# Altium footprint library Switcher.PcbLib: 128 footprints (part 7 of 9)
Each footprint in its own frame and in the unit in brackets; x right, y up, seen from the top. Pads: shape width x height; smd on the part's side, far side on the other; paste and mask are expansions set on the pad; w line width, h text height; cw(c..) or ccw(c..) is an arc to the next point about the centre after c.
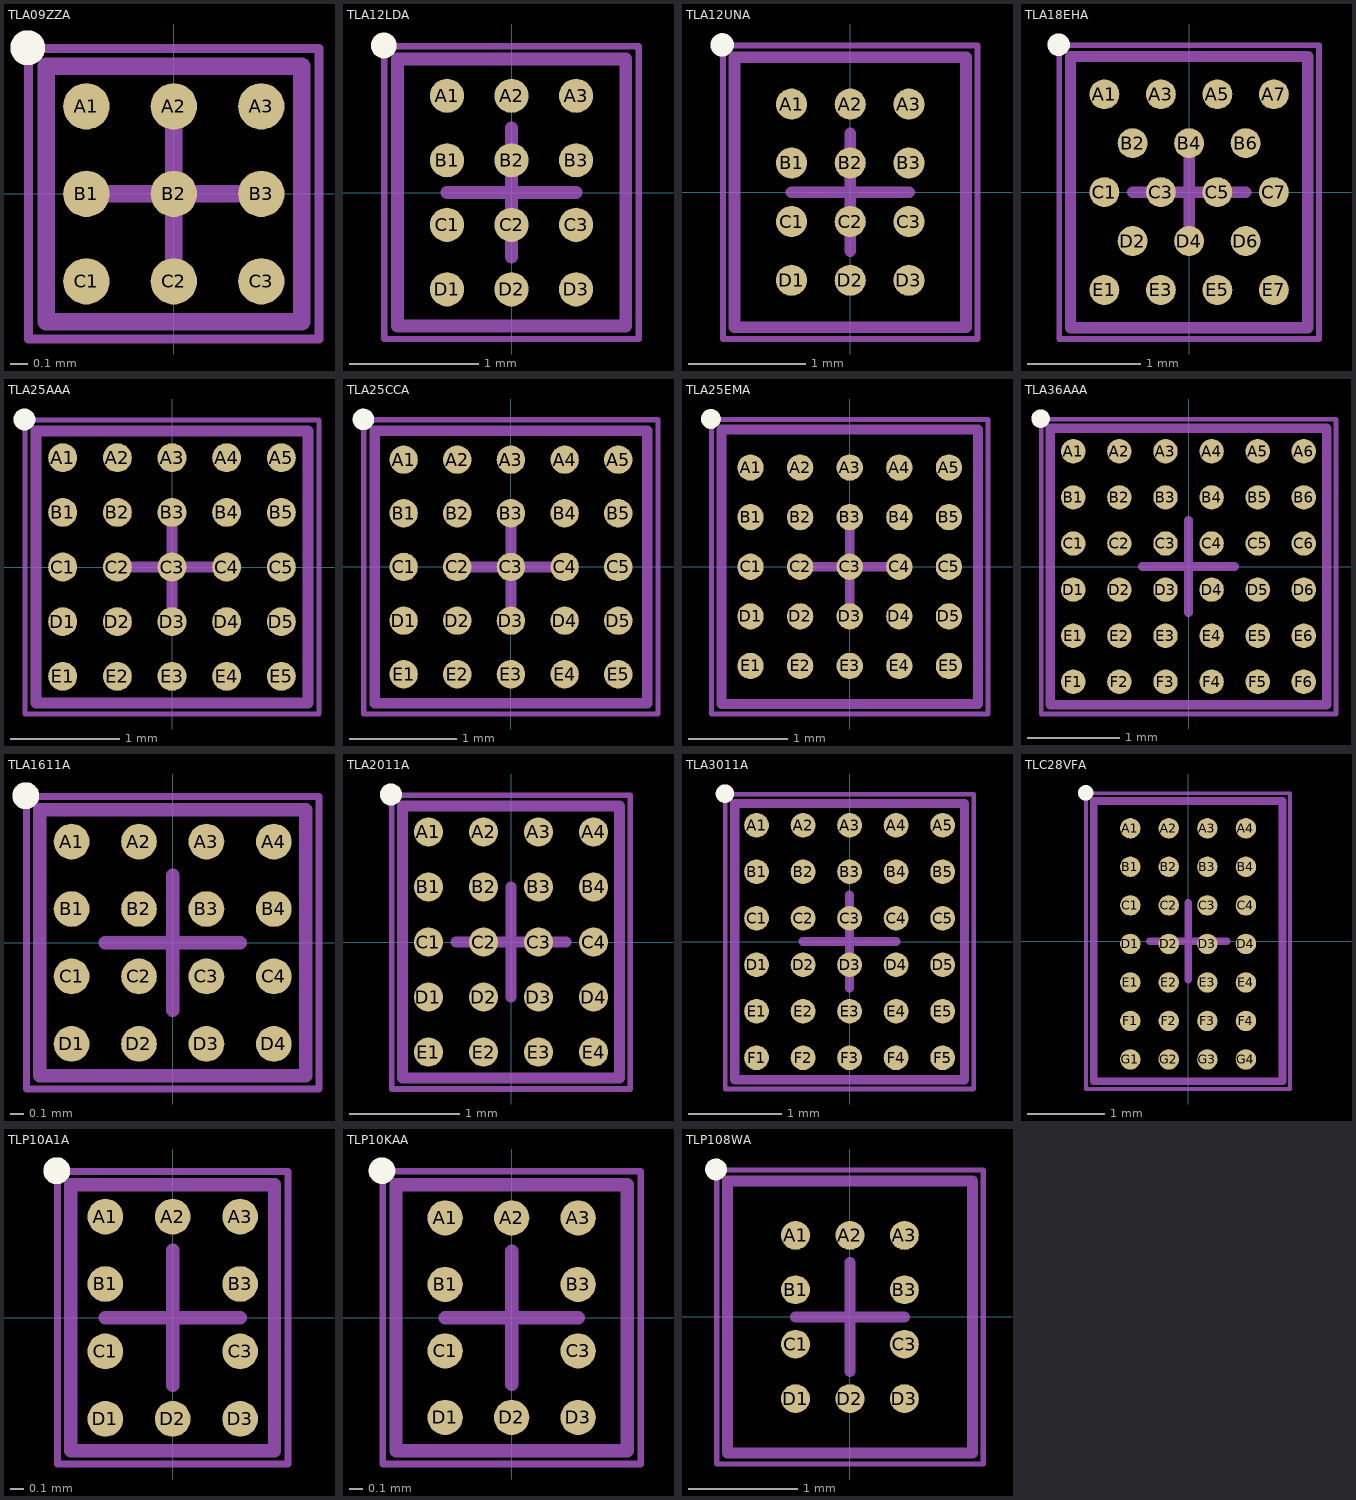
[diagram p6: the footprints below, top view; thin cyan lines are the x and y axes]

## TLA09ZZA [mm] "Micro SMD, 9-Leads, Body 1.47x1.47mm, Pitch 0.5mm, NSC Recommended"
height 0.68
pads (9):
  round 0.265 smd paste-0.132 mask+0.05: A1(-0.5,0.5) A2(0,0.5) A3(0.5,0.5) B1(-0.5,0) B2(0,0) B3(0.5,0) C1(-0.5,-0.5) C2(0,-0.5) C3(0.5,-0.5)
Top Overlay:
  circle w0.1: c-0.835,0.835 r0.05
Top Paste:
  circle w0.05: c-0.575,0.425 r0.025
  circle w0.05: c-0.425,0.575 r0.025
  circle w0.05: c-0.425,0.425 r0.025
  circle w0.05: c-0.575,0.575 r0.025
  circle w0.05: c-0.075,0.425 r0.025
  circle w0.05: c0.075,0.575 r0.025
  circle w0.05: c0.075,0.425 r0.025
  circle w0.05: c-0.075,0.575 r0.025
  circle w0.05: c0.425,0.425 r0.025
  circle w0.05: c0.575,0.575 r0.025
  circle w0.05: c0.575,0.425 r0.025
  circle w0.05: c0.425,0.575 r0.025
  circle w0.05: c-0.575,-0.075 r0.025
  circle w0.05: c-0.425,0.075 r0.025
  circle w0.05: c-0.425,-0.075 r0.025
  circle w0.05: c-0.575,0.075 r0.025
  circle w0.05: c-0.075,-0.075 r0.025
  circle w0.05: c0.075,0.075 r0.025
  circle w0.05: c0.075,-0.075 r0.025
  circle w0.05: c-0.075,0.075 r0.025
  circle w0.05: c0.425,-0.075 r0.025
  circle w0.05: c0.575,0.075 r0.025
  circle w0.05: c0.575,-0.075 r0.025
  circle w0.05: c0.425,0.075 r0.025
  circle w0.05: c-0.575,-0.575 r0.025
  circle w0.05: c-0.425,-0.425 r0.025
  circle w0.05: c-0.425,-0.575 r0.025
  circle w0.05: c-0.575,-0.425 r0.025
  circle w0.05: c-0.075,-0.575 r0.025
  circle w0.05: c0.075,-0.425 r0.025
  circle w0.05: c0.075,-0.575 r0.025
  circle w0.05: c-0.075,-0.425 r0.025
  circle w0.05: c0.425,-0.575 r0.025
  circle w0.05: c0.575,-0.425 r0.025
  circle w0.05: c0.575,-0.575 r0.025
  circle w0.05: c0.425,-0.425 r0.025
  region: -0.575,0.575 -0.575,0.425 -0.425,0.425 -0.425,0.575
  region: -0.575,0.425 -0.575,0.575 -0.625,0.575 -0.625,0.425
  rectangle: -0.575,0.575 -0.425,0.625
  region: -0.425,0.575 -0.425,0.425 -0.375,0.425 -0.375,0.575
  region: -0.425,0.425 -0.575,0.425 -0.575,0.375 -0.425,0.375
  region: -0.075,0.575 -0.075,0.425 0.075,0.425 0.075,0.575
  region: -0.075,0.425 -0.075,0.575 -0.125,0.575 -0.125,0.425
  rectangle: -0.075,0.575 0.075,0.625
  region: 0.075,0.575 0.075,0.425 0.125,0.425 0.125,0.575
  region: 0.075,0.425 -0.075,0.425 -0.075,0.375 0.075,0.375
  region: 0.425,0.575 0.425,0.425 0.575,0.425 0.575,0.575
  region: 0.425,0.425 0.425,0.575 0.375,0.575 0.375,0.425
  rectangle: 0.425,0.575 0.575,0.625
  region: 0.575,0.575 0.575,0.425 0.625,0.425 0.625,0.575
  region: 0.575,0.425 0.425,0.425 0.425,0.375 0.575,0.375
  region: -0.575,0.075 -0.575,-0.075 -0.425,-0.075 -0.425,0.075
  region: -0.575,-0.075 -0.575,0.075 -0.625,0.075 -0.625,-0.075
  rectangle: -0.575,0.075 -0.425,0.125
  region: -0.425,0.075 -0.425,-0.075 -0.375,-0.075 -0.375,0.075
  region: -0.425,-0.075 -0.575,-0.075 -0.575,-0.125 -0.425,-0.125
  region: -0.075,0.075 -0.075,-0.075 0.075,-0.075 0.075,0.075
  region: -0.075,-0.075 -0.075,0.075 -0.125,0.075 -0.125,-0.075
  rectangle: -0.075,0.075 0.075,0.125
  region: 0.075,0.075 0.075,-0.075 0.125,-0.075 0.125,0.075
  region: 0.075,-0.075 -0.075,-0.075 -0.075,-0.125 0.075,-0.125
  region: 0.425,0.075 0.425,-0.075 0.575,-0.075 0.575,0.075
  region: 0.425,-0.075 0.425,0.075 0.375,0.075 0.375,-0.075
  rectangle: 0.425,0.075 0.575,0.125
  region: 0.575,0.075 0.575,-0.075 0.625,-0.075 0.625,0.075
  region: 0.575,-0.075 0.425,-0.075 0.425,-0.125 0.575,-0.125
  region: -0.575,-0.425 -0.575,-0.575 -0.425,-0.575 -0.425,-0.425
  region: -0.575,-0.575 -0.575,-0.425 -0.625,-0.425 -0.625,-0.575
  rectangle: -0.575,-0.425 -0.425,-0.375
  region: -0.425,-0.425 -0.425,-0.575 -0.375,-0.575 -0.375,-0.425
  region: -0.425,-0.575 -0.575,-0.575 -0.575,-0.625 -0.425,-0.625
  region: -0.075,-0.425 -0.075,-0.575 0.075,-0.575 0.075,-0.425
  region: -0.075,-0.575 -0.075,-0.425 -0.125,-0.425 -0.125,-0.575
  rectangle: -0.075,-0.425 0.075,-0.375
  region: 0.075,-0.425 0.075,-0.575 0.125,-0.575 0.125,-0.425
  region: 0.075,-0.575 -0.075,-0.575 -0.075,-0.625 0.075,-0.625
  region: 0.425,-0.425 0.425,-0.575 0.575,-0.575 0.575,-0.425
  region: 0.425,-0.575 0.425,-0.425 0.375,-0.425 0.375,-0.575
  rectangle: 0.425,-0.425 0.575,-0.375
  region: 0.575,-0.425 0.575,-0.575 0.625,-0.575 0.625,-0.425
  region: 0.575,-0.575 0.425,-0.575 0.425,-0.625 0.575,-0.625
Mechanical 13:
  lines w0.1: -0.73,-0.73 -0.73,0.73 0.73,0.73 0.73,-0.73 -0.73,-0.73
Mechanical 15:
  lines w0.05: -0.83,-0.83 -0.83,0.83 0.83,0.83 0.83,-0.83 -0.83,-0.83
  lines w0.1: -0.5,0 0.5,0 ; 0,-0.5 0,0.5
3D body: height 0.68, standoff 0, extent -0.73,-0.73 0.73,0.73

## TLA12LDA [mm] "Micro SMD, 12-Leads, Body 2.07x1.77mm, Pitch 0.5mm, NSC Recommended"
height 0.68
pads (12):
  round 0.265 smd paste-0.132 mask+0.05: A1(-0.5,0.75) A2(0,0.75) A3(0.5,0.75) B1(-0.5,0.25) B2(0,0.25) B3(0.5,0.25) C1(-0.5,-0.25) C2(0,-0.25) C3(0.5,-0.25) D1(-0.5,-0.75) D2(0,-0.75) D3(0.5,-0.75)
Top Overlay:
  circle w0.1: c-0.99,1.14 r0.05
Top Paste:
  circle w0.05: c-0.575,0.675 r0.025
  circle w0.05: c-0.425,0.825 r0.025
  circle w0.05: c-0.425,0.675 r0.025
  circle w0.05: c-0.575,0.825 r0.025
  circle w0.05: c-0.075,0.675 r0.025
  circle w0.05: c0.075,0.825 r0.025
  circle w0.05: c0.075,0.675 r0.025
  circle w0.05: c-0.075,0.825 r0.025
  circle w0.05: c0.425,0.675 r0.025
  circle w0.05: c0.575,0.825 r0.025
  circle w0.05: c0.575,0.675 r0.025
  circle w0.05: c0.425,0.825 r0.025
  circle w0.05: c-0.575,0.175 r0.025
  circle w0.05: c-0.425,0.325 r0.025
  circle w0.05: c-0.425,0.175 r0.025
  circle w0.05: c-0.575,0.325 r0.025
  circle w0.05: c-0.075,0.175 r0.025
  circle w0.05: c0.075,0.325 r0.025
  circle w0.05: c0.075,0.175 r0.025
  circle w0.05: c-0.075,0.325 r0.025
  circle w0.05: c0.425,0.175 r0.025
  circle w0.05: c0.575,0.325 r0.025
  circle w0.05: c0.575,0.175 r0.025
  circle w0.05: c0.425,0.325 r0.025
  circle w0.05: c-0.575,-0.325 r0.025
  circle w0.05: c-0.425,-0.175 r0.025
  circle w0.05: c-0.425,-0.325 r0.025
  circle w0.05: c-0.575,-0.175 r0.025
  circle w0.05: c-0.075,-0.325 r0.025
  circle w0.05: c0.075,-0.175 r0.025
  circle w0.05: c0.075,-0.325 r0.025
  circle w0.05: c-0.075,-0.175 r0.025
  circle w0.05: c0.425,-0.325 r0.025
  circle w0.05: c0.575,-0.175 r0.025
  circle w0.05: c0.575,-0.325 r0.025
  circle w0.05: c0.425,-0.175 r0.025
  circle w0.05: c-0.575,-0.825 r0.025
  circle w0.05: c-0.425,-0.675 r0.025
  circle w0.05: c-0.425,-0.825 r0.025
  circle w0.05: c-0.575,-0.675 r0.025
  circle w0.05: c-0.075,-0.825 r0.025
  circle w0.05: c0.075,-0.675 r0.025
  circle w0.05: c0.075,-0.825 r0.025
  circle w0.05: c-0.075,-0.675 r0.025
  circle w0.05: c0.425,-0.825 r0.025
  circle w0.05: c0.575,-0.675 r0.025
  circle w0.05: c0.575,-0.825 r0.025
  circle w0.05: c0.425,-0.675 r0.025
  region: -0.575,0.825 -0.575,0.675 -0.425,0.675 -0.425,0.825
  region: -0.575,0.675 -0.575,0.825 -0.625,0.825 -0.625,0.675
  rectangle: -0.575,0.825 -0.425,0.875
  region: -0.425,0.825 -0.425,0.675 -0.375,0.675 -0.375,0.825
  region: -0.425,0.675 -0.575,0.675 -0.575,0.625 -0.425,0.625
  region: -0.075,0.825 -0.075,0.675 0.075,0.675 0.075,0.825
  region: -0.075,0.675 -0.075,0.825 -0.125,0.825 -0.125,0.675
  rectangle: -0.075,0.825 0.075,0.875
  region: 0.075,0.825 0.075,0.675 0.125,0.675 0.125,0.825
  region: 0.075,0.675 -0.075,0.675 -0.075,0.625 0.075,0.625
  region: 0.425,0.825 0.425,0.675 0.575,0.675 0.575,0.825
  region: 0.425,0.675 0.425,0.825 0.375,0.825 0.375,0.675
  rectangle: 0.425,0.825 0.575,0.875
  region: 0.575,0.825 0.575,0.675 0.625,0.675 0.625,0.825
  region: 0.575,0.675 0.425,0.675 0.425,0.625 0.575,0.625
  region: -0.575,0.325 -0.575,0.175 -0.425,0.175 -0.425,0.325
  region: -0.575,0.175 -0.575,0.325 -0.625,0.325 -0.625,0.175
  rectangle: -0.575,0.325 -0.425,0.375
  region: -0.425,0.325 -0.425,0.175 -0.375,0.175 -0.375,0.325
  region: -0.425,0.175 -0.575,0.175 -0.575,0.125 -0.425,0.125
  region: -0.075,0.325 -0.075,0.175 0.075,0.175 0.075,0.325
  region: -0.075,0.175 -0.075,0.325 -0.125,0.325 -0.125,0.175
  rectangle: -0.075,0.325 0.075,0.375
  region: 0.075,0.325 0.075,0.175 0.125,0.175 0.125,0.325
  region: 0.075,0.175 -0.075,0.175 -0.075,0.125 0.075,0.125
  region: 0.425,0.325 0.425,0.175 0.575,0.175 0.575,0.325
  region: 0.425,0.175 0.425,0.325 0.375,0.325 0.375,0.175
  rectangle: 0.425,0.325 0.575,0.375
  region: 0.575,0.325 0.575,0.175 0.625,0.175 0.625,0.325
  region: 0.575,0.175 0.425,0.175 0.425,0.125 0.575,0.125
  region: -0.575,-0.175 -0.575,-0.325 -0.425,-0.325 -0.425,-0.175
  region: -0.575,-0.325 -0.575,-0.175 -0.625,-0.175 -0.625,-0.325
  rectangle: -0.575,-0.175 -0.425,-0.125
  region: -0.425,-0.175 -0.425,-0.325 -0.375,-0.325 -0.375,-0.175
  region: -0.425,-0.325 -0.575,-0.325 -0.575,-0.375 -0.425,-0.375
  region: -0.075,-0.175 -0.075,-0.325 0.075,-0.325 0.075,-0.175
  region: -0.075,-0.325 -0.075,-0.175 -0.125,-0.175 -0.125,-0.325
  rectangle: -0.075,-0.175 0.075,-0.125
  region: 0.075,-0.175 0.075,-0.325 0.125,-0.325 0.125,-0.175
  region: 0.075,-0.325 -0.075,-0.325 -0.075,-0.375 0.075,-0.375
  region: 0.425,-0.175 0.425,-0.325 0.575,-0.325 0.575,-0.175
  region: 0.425,-0.325 0.425,-0.175 0.375,-0.175 0.375,-0.325
  rectangle: 0.425,-0.175 0.575,-0.125
  region: 0.575,-0.175 0.575,-0.325 0.625,-0.325 0.625,-0.175
  region: 0.575,-0.325 0.425,-0.325 0.425,-0.375 0.575,-0.375
  region: -0.575,-0.675 -0.575,-0.825 -0.425,-0.825 -0.425,-0.675
  region: -0.575,-0.825 -0.575,-0.675 -0.625,-0.675 -0.625,-0.825
  rectangle: -0.575,-0.675 -0.425,-0.625
  region: -0.425,-0.675 -0.425,-0.825 -0.375,-0.825 -0.375,-0.675
  region: -0.425,-0.825 -0.575,-0.825 -0.575,-0.875 -0.425,-0.875
  region: -0.075,-0.675 -0.075,-0.825 0.075,-0.825 0.075,-0.675
  region: -0.075,-0.825 -0.075,-0.675 -0.125,-0.675 -0.125,-0.825
  rectangle: -0.075,-0.675 0.075,-0.625
  region: 0.075,-0.675 0.075,-0.825 0.125,-0.825 0.125,-0.675
  region: 0.075,-0.825 -0.075,-0.825 -0.075,-0.875 0.075,-0.875
  region: 0.425,-0.675 0.425,-0.825 0.575,-0.825 0.575,-0.675
  region: 0.425,-0.825 0.425,-0.675 0.375,-0.675 0.375,-0.825
  rectangle: 0.425,-0.675 0.575,-0.625
  region: 0.575,-0.675 0.575,-0.825 0.625,-0.825 0.625,-0.675
  region: 0.575,-0.825 0.425,-0.825 0.425,-0.875 0.575,-0.875
Mechanical 13:
  lines w0.1: -0.885,-1.035 -0.885,1.035 0.885,1.035 0.885,-1.035 -0.885,-1.035
Mechanical 15:
  lines w0.05: -0.985,-1.135 -0.985,1.135 0.985,1.135 0.985,-1.135 -0.985,-1.135
  lines w0.1: -0.5,0 0.5,0 ; 0,-0.5 0,0.5
3D body: height 0.68, standoff 0, extent -0.885,-1.035 0.885,1.035

## TLA12UNA [mm] "Micro SMD, 12-Leads, Body 2.3x1.97mm, Pitch 0.5mm, NSC Recommended"
height 0.68
pads (12):
  round 0.265 smd paste-0.132 mask+0.05: A1(-0.5,0.75) A2(0,0.75) A3(0.5,0.75) B1(-0.5,0.25) B2(0,0.25) B3(0.5,0.25) C1(-0.5,-0.25) C2(0,-0.25) C3(0.5,-0.25) D1(-0.5,-0.75) D2(0,-0.75) D3(0.5,-0.75)
Top Overlay:
  circle w0.1: c-1.09,1.255 r0.05
Top Paste:
  circle w0.05: c-0.575,0.675 r0.025
  circle w0.05: c-0.425,0.825 r0.025
  circle w0.05: c-0.425,0.675 r0.025
  circle w0.05: c-0.575,0.825 r0.025
  circle w0.05: c-0.075,0.675 r0.025
  circle w0.05: c0.075,0.825 r0.025
  circle w0.05: c0.075,0.675 r0.025
  circle w0.05: c-0.075,0.825 r0.025
  circle w0.05: c0.425,0.675 r0.025
  circle w0.05: c0.575,0.825 r0.025
  circle w0.05: c0.575,0.675 r0.025
  circle w0.05: c0.425,0.825 r0.025
  circle w0.05: c-0.575,0.175 r0.025
  circle w0.05: c-0.425,0.325 r0.025
  circle w0.05: c-0.425,0.175 r0.025
  circle w0.05: c-0.575,0.325 r0.025
  circle w0.05: c-0.075,0.175 r0.025
  circle w0.05: c0.075,0.325 r0.025
  circle w0.05: c0.075,0.175 r0.025
  circle w0.05: c-0.075,0.325 r0.025
  circle w0.05: c0.425,0.175 r0.025
  circle w0.05: c0.575,0.325 r0.025
  circle w0.05: c0.575,0.175 r0.025
  circle w0.05: c0.425,0.325 r0.025
  circle w0.05: c-0.575,-0.325 r0.025
  circle w0.05: c-0.425,-0.175 r0.025
  circle w0.05: c-0.425,-0.325 r0.025
  circle w0.05: c-0.575,-0.175 r0.025
  circle w0.05: c-0.075,-0.325 r0.025
  circle w0.05: c0.075,-0.175 r0.025
  circle w0.05: c0.075,-0.325 r0.025
  circle w0.05: c-0.075,-0.175 r0.025
  circle w0.05: c0.425,-0.325 r0.025
  circle w0.05: c0.575,-0.175 r0.025
  circle w0.05: c0.575,-0.325 r0.025
  circle w0.05: c0.425,-0.175 r0.025
  circle w0.05: c-0.575,-0.825 r0.025
  circle w0.05: c-0.425,-0.675 r0.025
  circle w0.05: c-0.425,-0.825 r0.025
  circle w0.05: c-0.575,-0.675 r0.025
  circle w0.05: c-0.075,-0.825 r0.025
  circle w0.05: c0.075,-0.675 r0.025
  circle w0.05: c0.075,-0.825 r0.025
  circle w0.05: c-0.075,-0.675 r0.025
  circle w0.05: c0.425,-0.825 r0.025
  circle w0.05: c0.575,-0.675 r0.025
  circle w0.05: c0.575,-0.825 r0.025
  circle w0.05: c0.425,-0.675 r0.025
  region: -0.575,0.825 -0.575,0.675 -0.425,0.675 -0.425,0.825
  region: -0.575,0.675 -0.575,0.825 -0.625,0.825 -0.625,0.675
  rectangle: -0.575,0.825 -0.425,0.875
  region: -0.425,0.825 -0.425,0.675 -0.375,0.675 -0.375,0.825
  region: -0.425,0.675 -0.575,0.675 -0.575,0.625 -0.425,0.625
  region: -0.075,0.825 -0.075,0.675 0.075,0.675 0.075,0.825
  region: -0.075,0.675 -0.075,0.825 -0.125,0.825 -0.125,0.675
  rectangle: -0.075,0.825 0.075,0.875
  region: 0.075,0.825 0.075,0.675 0.125,0.675 0.125,0.825
  region: 0.075,0.675 -0.075,0.675 -0.075,0.625 0.075,0.625
  region: 0.425,0.825 0.425,0.675 0.575,0.675 0.575,0.825
  region: 0.425,0.675 0.425,0.825 0.375,0.825 0.375,0.675
  rectangle: 0.425,0.825 0.575,0.875
  region: 0.575,0.825 0.575,0.675 0.625,0.675 0.625,0.825
  region: 0.575,0.675 0.425,0.675 0.425,0.625 0.575,0.625
  region: -0.575,0.325 -0.575,0.175 -0.425,0.175 -0.425,0.325
  region: -0.575,0.175 -0.575,0.325 -0.625,0.325 -0.625,0.175
  rectangle: -0.575,0.325 -0.425,0.375
  region: -0.425,0.325 -0.425,0.175 -0.375,0.175 -0.375,0.325
  region: -0.425,0.175 -0.575,0.175 -0.575,0.125 -0.425,0.125
  region: -0.075,0.325 -0.075,0.175 0.075,0.175 0.075,0.325
  region: -0.075,0.175 -0.075,0.325 -0.125,0.325 -0.125,0.175
  rectangle: -0.075,0.325 0.075,0.375
  region: 0.075,0.325 0.075,0.175 0.125,0.175 0.125,0.325
  region: 0.075,0.175 -0.075,0.175 -0.075,0.125 0.075,0.125
  region: 0.425,0.325 0.425,0.175 0.575,0.175 0.575,0.325
  region: 0.425,0.175 0.425,0.325 0.375,0.325 0.375,0.175
  rectangle: 0.425,0.325 0.575,0.375
  region: 0.575,0.325 0.575,0.175 0.625,0.175 0.625,0.325
  region: 0.575,0.175 0.425,0.175 0.425,0.125 0.575,0.125
  region: -0.575,-0.175 -0.575,-0.325 -0.425,-0.325 -0.425,-0.175
  region: -0.575,-0.325 -0.575,-0.175 -0.625,-0.175 -0.625,-0.325
  rectangle: -0.575,-0.175 -0.425,-0.125
  region: -0.425,-0.175 -0.425,-0.325 -0.375,-0.325 -0.375,-0.175
  region: -0.425,-0.325 -0.575,-0.325 -0.575,-0.375 -0.425,-0.375
  region: -0.075,-0.175 -0.075,-0.325 0.075,-0.325 0.075,-0.175
  region: -0.075,-0.325 -0.075,-0.175 -0.125,-0.175 -0.125,-0.325
  rectangle: -0.075,-0.175 0.075,-0.125
  region: 0.075,-0.175 0.075,-0.325 0.125,-0.325 0.125,-0.175
  region: 0.075,-0.325 -0.075,-0.325 -0.075,-0.375 0.075,-0.375
  region: 0.425,-0.175 0.425,-0.325 0.575,-0.325 0.575,-0.175
  region: 0.425,-0.325 0.425,-0.175 0.375,-0.175 0.375,-0.325
  rectangle: 0.425,-0.175 0.575,-0.125
  region: 0.575,-0.175 0.575,-0.325 0.625,-0.325 0.625,-0.175
  region: 0.575,-0.325 0.425,-0.325 0.425,-0.375 0.575,-0.375
  region: -0.575,-0.675 -0.575,-0.825 -0.425,-0.825 -0.425,-0.675
  region: -0.575,-0.825 -0.575,-0.675 -0.625,-0.675 -0.625,-0.825
  rectangle: -0.575,-0.675 -0.425,-0.625
  region: -0.425,-0.675 -0.425,-0.825 -0.375,-0.825 -0.375,-0.675
  region: -0.425,-0.825 -0.575,-0.825 -0.575,-0.875 -0.425,-0.875
  region: -0.075,-0.675 -0.075,-0.825 0.075,-0.825 0.075,-0.675
  region: -0.075,-0.825 -0.075,-0.675 -0.125,-0.675 -0.125,-0.825
  rectangle: -0.075,-0.675 0.075,-0.625
  region: 0.075,-0.675 0.075,-0.825 0.125,-0.825 0.125,-0.675
  region: 0.075,-0.825 -0.075,-0.825 -0.075,-0.875 0.075,-0.875
  region: 0.425,-0.675 0.425,-0.825 0.575,-0.825 0.575,-0.675
  region: 0.425,-0.825 0.425,-0.675 0.375,-0.675 0.375,-0.825
  rectangle: 0.425,-0.675 0.575,-0.625
  region: 0.575,-0.675 0.575,-0.825 0.625,-0.825 0.625,-0.675
  region: 0.575,-0.825 0.425,-0.825 0.425,-0.875 0.575,-0.875
Mechanical 13:
  lines w0.1: -0.985,-1.15 -0.985,1.15 0.985,1.15 0.985,-1.15 -0.985,-1.15
Mechanical 15:
  lines w0.05: -1.085,-1.25 -1.085,1.25 1.085,1.25 1.085,-1.25 -1.085,-1.25
  lines w0.1: -0.5,0 0.5,0 ; 0,-0.5 0,0.5
3D body: height 0.68, standoff 0, extent -0.985,-1.15 0.985,1.15

## TLA18EHA [mm] "Micro SMD, 18-Leads, Body 2.41x2.1mm, Pitch 0.5mm, NSC Recommended"
height 0.68
pads (18):
  round 0.265 smd paste-0.132 mask+0.05: A1(-0.75,0.866) A3(-0.25,0.866) A5(0.25,0.866) A7(0.75,0.866) B2(-0.5,0.433) B4(0,0.433) B6(0.5,0.433) C1(-0.75,0) C3(-0.25,0) C5(0.25,0) C7(0.75,0) D2(-0.5,-0.433) D4(0,-0.433) D6(0.5,-0.433) E1(-0.75,-0.866) E3(-0.25,-0.866) E5(0.25,-0.866) E7(0.75,-0.866)
Top Overlay:
  circle w0.1: c-1.155,1.305 r0.05
Top Paste:
  drawing of 162 lines, arcs and shapes, not listed
Mechanical 13:
  lines w0.1: -1.05,-1.2 1.05,-1.2 1.05,1.2 -1.05,1.2 -1.05,-1.2
Mechanical 15:
  lines w0.05: -1.15,-1.3 -1.15,1.3 1.15,1.3 1.15,-1.3 -1.15,-1.3
  lines w0.1: -0.5,0 0.5,0 ; 0,-0.5 0,0.5
3D body: height 0.68, standoff 0, extent -1.049,-1.2 1.049,1.199

## TLA25AAA [mm] "Micro SMD, 25-Leads, Body 2.49x2.49mm, Pitch 0.5mm, NSC Recommended"
height 0.68
pads (25):
  round 0.265 smd paste-0.132 mask+0.05: A1(-1,1) A2(-0.5,1) A3(0,1) A4(0.5,1) A5(1,1) B1(-1,0.5) B2(-0.5,0.5) B3(0,0.5) B4(0.5,0.5) B5(1,0.5) C1(-1,0) C2(-0.5,0) C3(0,0) C4(0.5,0) C5(1,0) D1(-1,-0.5) D2(-0.5,-0.5) D3(0,-0.5) D4(0.5,-0.5) D5(1,-0.5) E1(-1,-1) E2(-0.5,-1) E3(0,-1) E4(0.5,-1) E5(1,-1)
Top Overlay:
  circle w0.1: c-1.35,1.35 r0.05
Top Paste:
  drawing of 225 lines, arcs and shapes, not listed
Mechanical 13:
  lines w0.1: -1.245,-1.245 1.245,-1.245 1.245,1.245 -1.245,1.245 -1.245,-1.245
Mechanical 15:
  lines w0.05: -1.345,-1.345 1.345,-1.345 1.345,1.345 -1.345,1.345 -1.345,-1.345
  lines w0.1: -0.5,0 0.5,0 ; 0,-0.5 0,0.5
3D body: height 0.68, standoff 0, extent -1.245,-1.245 1.245,1.245

## TLA25CCA [mm] "Micro SMD, 25-Leads, Body 2.54x2.54mm, Pitch 0.5mm, NSC Recommended"
height 0.68
pads (25):
  round 0.265 smd paste-0.132 mask+0.05: A1(-1,1) A2(-0.5,1) A3(0,1) A4(0.5,1) A5(1,1) B1(-1,0.5) B2(-0.5,0.5) B3(0,0.5) B4(0.5,0.5) B5(1,0.5) C1(-1,0) C2(-0.5,0) C3(0,0) C4(0.5,0) C5(1,0) D1(-1,-0.5) D2(-0.5,-0.5) D3(0,-0.5) D4(0.5,-0.5) D5(1,-0.5) E1(-1,-1) E2(-0.5,-1) E3(0,-1) E4(0.5,-1) E5(1,-1)
Top Overlay:
  circle w0.1: c-1.375,1.375 r0.05
Top Paste:
  drawing of 225 lines, arcs and shapes, not listed
Mechanical 13:
  lines w0.1: -1.27,-1.27 1.27,-1.27 1.27,1.27 -1.27,1.27 -1.27,-1.27
Mechanical 15:
  lines w0.05: -1.37,-1.37 1.37,-1.37 1.37,1.37 -1.37,1.37 -1.37,-1.37
  lines w0.1: -0.5,0 0.5,0 ; 0,-0.5 0,0.5
3D body: height 0.68, standoff 0, extent -1.27,-1.27 1.27,1.27

## TLA25EMA [mm] "Micro SMD, 25-Leads, Body 2.77x2.59mm, Pitch 0.5mm, NSC Recommended"
height 0.68
pads (25):
  round 0.265 smd paste-0.132 mask+0.05: A1(-1,1) A2(-0.5,1) A3(0,1) A4(0.5,1) A5(1,1) B1(-1,0.5) B2(-0.5,0.5) B3(0,0.5) B4(0.5,0.5) B5(1,0.5) C1(-1,0) C2(-0.5,0) C3(0,0) C4(0.5,0) C5(1,0) D1(-1,-0.5) D2(-0.5,-0.5) D3(0,-0.5) D4(0.5,-0.5) D5(1,-0.5) E1(-1,-1) E2(-0.5,-1) E3(0,-1) E4(0.5,-1) E5(1,-1)
Top Overlay:
  circle w0.1: c-1.4,1.49 r0.05
Top Paste:
  drawing of 225 lines, arcs and shapes, not listed
Mechanical 13:
  lines w0.1: -1.295,-1.385 1.295,-1.385 1.295,1.385 -1.295,1.385 -1.295,-1.385
Mechanical 15:
  lines w0.05: -1.395,-1.485 1.395,-1.485 1.395,1.485 -1.395,1.485 -1.395,-1.485
  lines w0.1: -0.5,0 0.5,0 ; 0,-0.5 0,0.5
3D body: height 0.68, standoff 0, extent -1.295,-1.385 1.295,1.385

## TLA36AAA [mm] "Micro SMD, 36-Leads, Body 3x3mm, Pitch 0.5mm, NSC Recommended"
height 0.68
pads (36):
  round 0.265 smd paste-0.132 mask+0.05: A1(-1.25,1.25) A2(-0.75,1.25) A3(-0.25,1.25) A4(0.25,1.25) A5(0.75,1.25) A6(1.25,1.25) B1(-1.25,0.75) B2(-0.75,0.75) B3(-0.25,0.75) B4(0.25,0.75) B5(0.75,0.75) B6(1.25,0.75) C1(-1.25,0.25) C2(-0.75,0.25) C3(-0.25,0.25) C4(0.25,0.25) C5(0.75,0.25) C6(1.25,0.25) D1(-1.25,-0.25) D2(-0.75,-0.25) D3(-0.25,-0.25) D4(0.25,-0.25) D5(0.75,-0.25) D6(1.25,-0.25) E1(-1.25,-0.75) E2(-0.75,-0.75) E3(-0.25,-0.75) E4(0.25,-0.75) E5(0.75,-0.75) E6(1.25,-0.75) F1(-1.25,-1.25) F2(-0.75,-1.25) F3(-0.25,-1.25) F4(0.25,-1.25) F5(0.75,-1.25) F6(1.25,-1.25)
Top Overlay:
  circle w0.1: c-1.605,1.605 r0.05
Top Paste:
  drawing of 324 lines, arcs and shapes, not listed
Mechanical 13:
  lines w0.1: -1.5,-1.5 -1.5,1.5 1.5,1.5 1.5,-1.5 -1.5,-1.5
Mechanical 15:
  lines w0.05: -1.6,-1.6 -1.6,1.6 1.6,1.6 1.6,-1.6 -1.6,-1.6
  lines w0.1: -0.5,0 0.5,0 ; 0,-0.5 0,0.5
3D body: height 0.68, standoff 0, extent -1.5,-1.5 1.5,1.5

## TLA1611A [mm] "Micro SMD, 16-Leads, Body 1.97x1.97mm, Pitch 0.5mm, NSC Recommended"
height 0.68
pads (16):
  round 0.265 smd paste-0.132 mask+0.05: A1(-0.75,0.75) A2(-0.25,0.75) A3(0.25,0.75) A4(0.75,0.75) B1(-0.75,0.25) B2(-0.25,0.25) B3(0.25,0.25) B4(0.75,0.25) C1(-0.75,-0.25) C2(-0.25,-0.25) C3(0.25,-0.25) C4(0.75,-0.25) D1(-0.75,-0.75) D2(-0.25,-0.75) D3(0.25,-0.75) D4(0.75,-0.75)
Top Overlay:
  circle w0.1: c-1.09,1.09 r0.05
Top Paste:
  circle w0.05: c-0.825,0.675 r0.025
  circle w0.05: c-0.675,0.825 r0.025
  circle w0.05: c-0.675,0.675 r0.025
  circle w0.05: c-0.825,0.825 r0.025
  circle w0.05: c-0.325,0.675 r0.025
  circle w0.05: c-0.175,0.825 r0.025
  circle w0.05: c-0.175,0.675 r0.025
  circle w0.05: c-0.325,0.825 r0.025
  circle w0.05: c0.175,0.675 r0.025
  circle w0.05: c0.325,0.825 r0.025
  circle w0.05: c0.325,0.675 r0.025
  circle w0.05: c0.175,0.825 r0.025
  circle w0.05: c0.675,0.675 r0.025
  circle w0.05: c0.825,0.825 r0.025
  circle w0.05: c0.825,0.675 r0.025
  circle w0.05: c0.675,0.825 r0.025
  circle w0.05: c-0.825,0.175 r0.025
  circle w0.05: c-0.675,0.325 r0.025
  circle w0.05: c-0.675,0.175 r0.025
  circle w0.05: c-0.825,0.325 r0.025
  circle w0.05: c-0.325,0.175 r0.025
  circle w0.05: c-0.175,0.325 r0.025
  circle w0.05: c-0.175,0.175 r0.025
  circle w0.05: c-0.325,0.325 r0.025
  circle w0.05: c0.175,0.175 r0.025
  circle w0.05: c0.325,0.325 r0.025
  circle w0.05: c0.325,0.175 r0.025
  circle w0.05: c0.175,0.325 r0.025
  circle w0.05: c0.675,0.175 r0.025
  circle w0.05: c0.825,0.325 r0.025
  circle w0.05: c0.825,0.175 r0.025
  circle w0.05: c0.675,0.325 r0.025
  circle w0.05: c-0.825,-0.325 r0.025
  circle w0.05: c-0.675,-0.175 r0.025
  circle w0.05: c-0.675,-0.325 r0.025
  circle w0.05: c-0.825,-0.175 r0.025
  circle w0.05: c-0.325,-0.325 r0.025
  circle w0.05: c-0.175,-0.175 r0.025
  circle w0.05: c-0.175,-0.325 r0.025
  circle w0.05: c-0.325,-0.175 r0.025
  circle w0.05: c0.175,-0.325 r0.025
  circle w0.05: c0.325,-0.175 r0.025
  circle w0.05: c0.325,-0.325 r0.025
  circle w0.05: c0.175,-0.175 r0.025
  circle w0.05: c0.675,-0.325 r0.025
  circle w0.05: c0.825,-0.175 r0.025
  circle w0.05: c0.825,-0.325 r0.025
  circle w0.05: c0.675,-0.175 r0.025
  circle w0.05: c-0.825,-0.825 r0.025
  circle w0.05: c-0.675,-0.675 r0.025
  circle w0.05: c-0.675,-0.825 r0.025
  circle w0.05: c-0.825,-0.675 r0.025
  circle w0.05: c-0.325,-0.825 r0.025
  circle w0.05: c-0.175,-0.675 r0.025
  circle w0.05: c-0.175,-0.825 r0.025
  circle w0.05: c-0.325,-0.675 r0.025
  circle w0.05: c0.175,-0.825 r0.025
  circle w0.05: c0.325,-0.675 r0.025
  circle w0.05: c0.325,-0.825 r0.025
  circle w0.05: c0.175,-0.675 r0.025
  circle w0.05: c0.675,-0.825 r0.025
  circle w0.05: c0.825,-0.675 r0.025
  circle w0.05: c0.825,-0.825 r0.025
  circle w0.05: c0.675,-0.675 r0.025
  region: -0.825,0.825 -0.825,0.675 -0.675,0.675 -0.675,0.825
  region: -0.825,0.675 -0.825,0.825 -0.875,0.825 -0.875,0.675
  rectangle: -0.825,0.825 -0.675,0.875
  region: -0.675,0.825 -0.675,0.675 -0.625,0.675 -0.625,0.825
  region: -0.675,0.675 -0.825,0.675 -0.825,0.625 -0.675,0.625
  region: -0.325,0.825 -0.325,0.675 -0.175,0.675 -0.175,0.825
  region: -0.325,0.675 -0.325,0.825 -0.375,0.825 -0.375,0.675
  rectangle: -0.325,0.825 -0.175,0.875
  region: -0.175,0.825 -0.175,0.675 -0.125,0.675 -0.125,0.825
  region: -0.175,0.675 -0.325,0.675 -0.325,0.625 -0.175,0.625
  region: 0.175,0.825 0.175,0.675 0.325,0.675 0.325,0.825
  region: 0.175,0.675 0.175,0.825 0.125,0.825 0.125,0.675
  rectangle: 0.175,0.825 0.325,0.875
  region: 0.325,0.825 0.325,0.675 0.375,0.675 0.375,0.825
  region: 0.325,0.675 0.175,0.675 0.175,0.625 0.325,0.625
  region: 0.675,0.825 0.675,0.675 0.825,0.675 0.825,0.825
  region: 0.675,0.675 0.675,0.825 0.625,0.825 0.625,0.675
  rectangle: 0.675,0.825 0.825,0.875
  region: 0.825,0.825 0.825,0.675 0.875,0.675 0.875,0.825
  region: 0.825,0.675 0.675,0.675 0.675,0.625 0.825,0.625
  region: -0.825,0.325 -0.825,0.175 -0.675,0.175 -0.675,0.325
  region: -0.825,0.175 -0.825,0.325 -0.875,0.325 -0.875,0.175
  rectangle: -0.825,0.325 -0.675,0.375
  region: -0.675,0.325 -0.675,0.175 -0.625,0.175 -0.625,0.325
  region: -0.675,0.175 -0.825,0.175 -0.825,0.125 -0.675,0.125
  region: -0.325,0.325 -0.325,0.175 -0.175,0.175 -0.175,0.325
  region: -0.325,0.175 -0.325,0.325 -0.375,0.325 -0.375,0.175
  rectangle: -0.325,0.325 -0.175,0.375
  region: -0.175,0.325 -0.175,0.175 -0.125,0.175 -0.125,0.325
  region: -0.175,0.175 -0.325,0.175 -0.325,0.125 -0.175,0.125
  region: 0.175,0.325 0.175,0.175 0.325,0.175 0.325,0.325
  region: 0.175,0.175 0.175,0.325 0.125,0.325 0.125,0.175
  rectangle: 0.175,0.325 0.325,0.375
  region: 0.325,0.325 0.325,0.175 0.375,0.175 0.375,0.325
  region: 0.325,0.175 0.175,0.175 0.175,0.125 0.325,0.125
  region: 0.675,0.325 0.675,0.175 0.825,0.175 0.825,0.325
  region: 0.675,0.175 0.675,0.325 0.625,0.325 0.625,0.175
  rectangle: 0.675,0.325 0.825,0.375
  region: 0.825,0.325 0.825,0.175 0.875,0.175 0.875,0.325
  region: 0.825,0.175 0.675,0.175 0.675,0.125 0.825,0.125
  region: -0.825,-0.175 -0.825,-0.325 -0.675,-0.325 -0.675,-0.175
  region: -0.825,-0.325 -0.825,-0.175 -0.875,-0.175 -0.875,-0.325
  rectangle: -0.825,-0.175 -0.675,-0.125
  region: -0.675,-0.175 -0.675,-0.325 -0.625,-0.325 -0.625,-0.175
  region: -0.675,-0.325 -0.825,-0.325 -0.825,-0.375 -0.675,-0.375
  region: -0.325,-0.175 -0.325,-0.325 -0.175,-0.325 -0.175,-0.175
  region: -0.325,-0.325 -0.325,-0.175 -0.375,-0.175 -0.375,-0.325
  rectangle: -0.325,-0.175 -0.175,-0.125
  region: -0.175,-0.175 -0.175,-0.325 -0.125,-0.325 -0.125,-0.175
  region: -0.175,-0.325 -0.325,-0.325 -0.325,-0.375 -0.175,-0.375
  region: 0.175,-0.175 0.175,-0.325 0.325,-0.325 0.325,-0.175
  region: 0.175,-0.325 0.175,-0.175 0.125,-0.175 0.125,-0.325
  rectangle: 0.175,-0.175 0.325,-0.125
  region: 0.325,-0.175 0.325,-0.325 0.375,-0.325 0.375,-0.175
  region: 0.325,-0.325 0.175,-0.325 0.175,-0.375 0.325,-0.375
  region: 0.675,-0.175 0.675,-0.325 0.825,-0.325 0.825,-0.175
  region: 0.675,-0.325 0.675,-0.175 0.625,-0.175 0.625,-0.325
  rectangle: 0.675,-0.175 0.825,-0.125
  region: 0.825,-0.175 0.825,-0.325 0.875,-0.325 0.875,-0.175
  region: 0.825,-0.325 0.675,-0.325 0.675,-0.375 0.825,-0.375
  region: -0.825,-0.675 -0.825,-0.825 -0.675,-0.825 -0.675,-0.675
  region: -0.825,-0.825 -0.825,-0.675 -0.875,-0.675 -0.875,-0.825
  rectangle: -0.825,-0.675 -0.675,-0.625
  region: -0.675,-0.675 -0.675,-0.825 -0.625,-0.825 -0.625,-0.675
  region: -0.675,-0.825 -0.825,-0.825 -0.825,-0.875 -0.675,-0.875
  region: -0.325,-0.675 -0.325,-0.825 -0.175,-0.825 -0.175,-0.675
  region: -0.325,-0.825 -0.325,-0.675 -0.375,-0.675 -0.375,-0.825
  rectangle: -0.325,-0.675 -0.175,-0.625
  region: -0.175,-0.675 -0.175,-0.825 -0.125,-0.825 -0.125,-0.675
  region: -0.175,-0.825 -0.325,-0.825 -0.325,-0.875 -0.175,-0.875
  region: 0.175,-0.675 0.175,-0.825 0.325,-0.825 0.325,-0.675
  region: 0.175,-0.825 0.175,-0.675 0.125,-0.675 0.125,-0.825
  rectangle: 0.175,-0.675 0.325,-0.625
  region: 0.325,-0.675 0.325,-0.825 0.375,-0.825 0.375,-0.675
  region: 0.325,-0.825 0.175,-0.825 0.175,-0.875 0.325,-0.875
  region: 0.675,-0.675 0.675,-0.825 0.825,-0.825 0.825,-0.675
  region: 0.675,-0.825 0.675,-0.675 0.625,-0.675 0.625,-0.825
  rectangle: 0.675,-0.675 0.825,-0.625
  region: 0.825,-0.675 0.825,-0.825 0.875,-0.825 0.875,-0.675
  region: 0.825,-0.825 0.675,-0.825 0.675,-0.875 0.825,-0.875
Mechanical 13:
  lines w0.1: -0.985,-0.985 -0.985,0.985 0.985,0.985 0.985,-0.985 -0.985,-0.985
Mechanical 15:
  lines w0.05: -1.085,-1.085 -1.085,1.085 1.085,1.085 1.085,-1.085 -1.085,-1.085
  lines w0.1: -0.5,0 0.5,0 ; 0,-0.5 0,0.5
3D body: height 0.68, standoff 0, extent -0.985,-0.985 0.985,0.985

## TLA2011A [mm] "Micro SMD, 20-Leads, Body 2.47x1.97mm, Pitch 0.5mm, NSC Recommended"
height 0.68
pads (20):
  round 0.265 smd paste-0.132 mask+0.05: A1(-0.75,1) A2(-0.25,1) A3(0.25,1) A4(0.75,1) B1(-0.75,0.5) B2(-0.25,0.5) B3(0.25,0.5) B4(0.75,0.5) C1(-0.75,0) C2(-0.25,0) C3(0.25,0) C4(0.75,0) D1(-0.75,-0.5) D2(-0.25,-0.5) D3(0.25,-0.5) D4(0.75,-0.5) E1(-0.75,-1) E2(-0.25,-1) E3(0.25,-1) E4(0.75,-1)
Top Overlay:
  circle w0.1: c-1.09,1.34 r0.05
Top Paste:
  drawing of 180 lines, arcs and shapes, not listed
Mechanical 13:
  lines w0.1: -0.985,-1.235 -0.985,1.235 0.985,1.235 0.985,-1.235 -0.985,-1.235
Mechanical 15:
  lines w0.05: -1.085,-1.335 -1.085,1.335 1.085,1.335 1.085,-1.335 -1.085,-1.335
  lines w0.1: -0.5,0 0.5,0 ; 0,-0.5 0,0.5
3D body: height 0.68, standoff 0, extent -0.985,-1.235 0.985,1.235

## TLA3011A [mm] "Micro SMD, 30-Leads, Body 2.97x2.47mm, Pitch 0.5mm, NSC Recommended"
height 0.68
pads (30):
  round 0.265 smd paste-0.132 mask+0.05: A1(-1,1.25) A2(-0.5,1.25) A3(0,1.25) A4(0.5,1.25) A5(1,1.25) B1(-1,0.75) B2(-0.5,0.75) B3(0,0.75) B4(0.5,0.75) B5(1,0.75) C1(-1,0.25) C2(-0.5,0.25) C3(0,0.25) C4(0.5,0.25) C5(1,0.25) D1(-1,-0.25) D2(-0.5,-0.25) D3(0,-0.25) D4(0.5,-0.25) D5(1,-0.25) E1(-1,-0.75) E2(-0.5,-0.75) E3(0,-0.75) E4(0.5,-0.75) E5(1,-0.75) F1(-1,-1.25) F2(-0.5,-1.25) F3(0,-1.25) F4(0.5,-1.25) F5(1,-1.25)
Top Overlay:
  circle w0.1: c-1.34,1.59 r0.05
Top Paste:
  drawing of 270 lines, arcs and shapes, not listed
Mechanical 13:
  lines w0.1: -1.235,-1.485 -1.235,1.485 1.235,1.485 1.235,-1.485 -1.235,-1.485
Mechanical 15:
  lines w0.05: -1.335,-1.585 -1.335,1.585 1.335,1.585 1.335,-1.585 -1.335,-1.585
  lines w0.1: -0.5,0 0.5,0 ; 0,-0.5 0,0.5
3D body: height 0.68, standoff 0, extent -1.235,-1.485 1.235,1.485

## TLC28VFA [mm] "Micro SMD, 28-Leads, Body 3.64x2.45mm, Pitch 0.5mm, NSC Recommended"
height 0.68
pads (28):
  round 0.265 smd paste-0.132 mask+0.05: A1(-0.75,1.464) A2(-0.25,1.464) A3(0.25,1.464) A4(0.75,1.464) B1(-0.75,0.964) B2(-0.25,0.964) B3(0.25,0.964) B4(0.75,0.964) C1(-0.75,0.464) C2(-0.25,0.464) C3(0.25,0.464) C4(0.75,0.464) D1(-0.75,-0.036) D2(-0.25,-0.036) D3(0.25,-0.036) D4(0.75,-0.036) E1(-0.75,-0.536) E2(-0.25,-0.536) E3(0.25,-0.536) E4(0.75,-0.536) F1(-0.75,-1.036) F2(-0.25,-1.036) F3(0.25,-1.036) F4(0.75,-1.036) G1(-0.75,-1.536) G2(-0.25,-1.536) G3(0.25,-1.536) G4(0.75,-1.536)
Top Overlay:
  circle w0.1: c-1.33,1.925 r0.05
Top Paste:
  drawing of 252 lines, arcs and shapes, not listed
Mechanical 13:
  lines w0.1: -1.225,-1.82 1.225,-1.82 1.225,1.82 -1.225,1.82 -1.225,-1.82
Mechanical 15:
  lines w0.05: -1.325,-1.92 1.325,-1.92 1.325,1.92 -1.325,1.92 -1.325,-1.92
  lines w0.1: -0.5,0 0.5,0 ; 0,-0.5 0,0.5
3D body: height 0.68, standoff 0, extent -1.225,-1.82 1.225,1.82

## TLP10A1A [mm] "Micro SMD, 10-Leads, Body 1.97x1.51mm, Pitch 0.5mm, NSC Recommended"
height 0.68
pads (10):
  round 0.265 smd paste-0.132 mask+0.05: A1(-0.5,0.75) A2(0,0.75) A3(0.5,0.75) B1(-0.5,0.25) B3(0.5,0.25) C1(-0.5,-0.25) C3(0.5,-0.25) D1(-0.5,-0.75) D2(0,-0.75) D3(0.5,-0.75)
Top Overlay:
  circle w0.1: c-0.86,1.09 r0.05
Top Paste:
  circle w0.05: c-0.575,0.675 r0.025
  circle w0.05: c-0.425,0.825 r0.025
  circle w0.05: c-0.425,0.675 r0.025
  circle w0.05: c-0.575,0.825 r0.025
  circle w0.05: c-0.075,0.675 r0.025
  circle w0.05: c0.075,0.825 r0.025
  circle w0.05: c0.075,0.675 r0.025
  circle w0.05: c-0.075,0.825 r0.025
  circle w0.05: c0.425,0.675 r0.025
  circle w0.05: c0.575,0.825 r0.025
  circle w0.05: c0.575,0.675 r0.025
  circle w0.05: c0.425,0.825 r0.025
  circle w0.05: c-0.575,0.175 r0.025
  circle w0.05: c-0.425,0.325 r0.025
  circle w0.05: c-0.425,0.175 r0.025
  circle w0.05: c-0.575,0.325 r0.025
  circle w0.05: c0.425,0.175 r0.025
  circle w0.05: c0.575,0.325 r0.025
  circle w0.05: c0.575,0.175 r0.025
  circle w0.05: c0.425,0.325 r0.025
  circle w0.05: c-0.575,-0.325 r0.025
  circle w0.05: c-0.425,-0.175 r0.025
  circle w0.05: c-0.425,-0.325 r0.025
  circle w0.05: c-0.575,-0.175 r0.025
  circle w0.05: c0.425,-0.325 r0.025
  circle w0.05: c0.575,-0.175 r0.025
  circle w0.05: c0.575,-0.325 r0.025
  circle w0.05: c0.425,-0.175 r0.025
  circle w0.05: c-0.575,-0.825 r0.025
  circle w0.05: c-0.425,-0.675 r0.025
  circle w0.05: c-0.425,-0.825 r0.025
  circle w0.05: c-0.575,-0.675 r0.025
  circle w0.05: c-0.075,-0.825 r0.025
  circle w0.05: c0.075,-0.675 r0.025
  circle w0.05: c0.075,-0.825 r0.025
  circle w0.05: c-0.075,-0.675 r0.025
  circle w0.05: c0.425,-0.825 r0.025
  circle w0.05: c0.575,-0.675 r0.025
  circle w0.05: c0.575,-0.825 r0.025
  circle w0.05: c0.425,-0.675 r0.025
  region: -0.575,0.825 -0.575,0.675 -0.425,0.675 -0.425,0.825
  region: -0.575,0.675 -0.575,0.825 -0.625,0.825 -0.625,0.675
  rectangle: -0.575,0.825 -0.425,0.875
  region: -0.425,0.825 -0.425,0.675 -0.375,0.675 -0.375,0.825
  region: -0.425,0.675 -0.575,0.675 -0.575,0.625 -0.425,0.625
  region: -0.075,0.825 -0.075,0.675 0.075,0.675 0.075,0.825
  region: -0.075,0.675 -0.075,0.825 -0.125,0.825 -0.125,0.675
  rectangle: -0.075,0.825 0.075,0.875
  region: 0.075,0.825 0.075,0.675 0.125,0.675 0.125,0.825
  region: 0.075,0.675 -0.075,0.675 -0.075,0.625 0.075,0.625
  region: 0.425,0.825 0.425,0.675 0.575,0.675 0.575,0.825
  region: 0.425,0.675 0.425,0.825 0.375,0.825 0.375,0.675
  rectangle: 0.425,0.825 0.575,0.875
  region: 0.575,0.825 0.575,0.675 0.625,0.675 0.625,0.825
  region: 0.575,0.675 0.425,0.675 0.425,0.625 0.575,0.625
  region: -0.575,0.325 -0.575,0.175 -0.425,0.175 -0.425,0.325
  region: -0.575,0.175 -0.575,0.325 -0.625,0.325 -0.625,0.175
  rectangle: -0.575,0.325 -0.425,0.375
  region: -0.425,0.325 -0.425,0.175 -0.375,0.175 -0.375,0.325
  region: -0.425,0.175 -0.575,0.175 -0.575,0.125 -0.425,0.125
  region: 0.425,0.325 0.425,0.175 0.575,0.175 0.575,0.325
  region: 0.425,0.175 0.425,0.325 0.375,0.325 0.375,0.175
  rectangle: 0.425,0.325 0.575,0.375
  region: 0.575,0.325 0.575,0.175 0.625,0.175 0.625,0.325
  region: 0.575,0.175 0.425,0.175 0.425,0.125 0.575,0.125
  region: -0.575,-0.175 -0.575,-0.325 -0.425,-0.325 -0.425,-0.175
  region: -0.575,-0.325 -0.575,-0.175 -0.625,-0.175 -0.625,-0.325
  rectangle: -0.575,-0.175 -0.425,-0.125
  region: -0.425,-0.175 -0.425,-0.325 -0.375,-0.325 -0.375,-0.175
  region: -0.425,-0.325 -0.575,-0.325 -0.575,-0.375 -0.425,-0.375
  region: 0.425,-0.175 0.425,-0.325 0.575,-0.325 0.575,-0.175
  region: 0.425,-0.325 0.425,-0.175 0.375,-0.175 0.375,-0.325
  rectangle: 0.425,-0.175 0.575,-0.125
  region: 0.575,-0.175 0.575,-0.325 0.625,-0.325 0.625,-0.175
  region: 0.575,-0.325 0.425,-0.325 0.425,-0.375 0.575,-0.375
  region: -0.575,-0.675 -0.575,-0.825 -0.425,-0.825 -0.425,-0.675
  region: -0.575,-0.825 -0.575,-0.675 -0.625,-0.675 -0.625,-0.825
  rectangle: -0.575,-0.675 -0.425,-0.625
  region: -0.425,-0.675 -0.425,-0.825 -0.375,-0.825 -0.375,-0.675
  region: -0.425,-0.825 -0.575,-0.825 -0.575,-0.875 -0.425,-0.875
  region: -0.075,-0.675 -0.075,-0.825 0.075,-0.825 0.075,-0.675
  region: -0.075,-0.825 -0.075,-0.675 -0.125,-0.675 -0.125,-0.825
  rectangle: -0.075,-0.675 0.075,-0.625
  region: 0.075,-0.675 0.075,-0.825 0.125,-0.825 0.125,-0.675
  region: 0.075,-0.825 -0.075,-0.825 -0.075,-0.875 0.075,-0.875
  region: 0.425,-0.675 0.425,-0.825 0.575,-0.825 0.575,-0.675
  region: 0.425,-0.825 0.425,-0.675 0.375,-0.675 0.375,-0.825
  rectangle: 0.425,-0.675 0.575,-0.625
  region: 0.575,-0.675 0.575,-0.825 0.625,-0.825 0.625,-0.675
  region: 0.575,-0.825 0.425,-0.825 0.425,-0.875 0.575,-0.875
Mechanical 13:
  lines w0.1: -0.755,-0.985 -0.755,0.985 0.755,0.985 0.755,-0.985 -0.755,-0.985
Mechanical 15:
  lines w0.05: -0.855,-1.085 -0.855,1.085 0.855,1.085 0.855,-1.085 -0.855,-1.085
  lines w0.1: -0.5,0 0.5,0 ; 0,-0.5 0,0.5
3D body: height 0.68, standoff 0, extent -0.755,-0.985 0.755,0.985

## TLP10KAA [mm] "Micro SMD, 10-Leads, Body 2x1.74mm, Pitch 0.5mm, NSC Recommended"
height 0.68
pads (10):
  round 0.265 smd paste-0.132 mask+0.05: A1(-0.5,0.75) A2(0,0.75) A3(0.5,0.75) B1(-0.5,0.25) B3(0.5,0.25) C1(-0.5,-0.25) C3(0.5,-0.25) D1(-0.5,-0.75) D2(0,-0.75) D3(0.5,-0.75)
Top Overlay:
  circle w0.1: c-0.975,1.105 r0.05
Top Paste:
  circle w0.05: c-0.575,0.675 r0.025
  circle w0.05: c-0.425,0.825 r0.025
  circle w0.05: c-0.425,0.675 r0.025
  circle w0.05: c-0.575,0.825 r0.025
  circle w0.05: c-0.075,0.675 r0.025
  circle w0.05: c0.075,0.825 r0.025
  circle w0.05: c0.075,0.675 r0.025
  circle w0.05: c-0.075,0.825 r0.025
  circle w0.05: c0.425,0.675 r0.025
  circle w0.05: c0.575,0.825 r0.025
  circle w0.05: c0.575,0.675 r0.025
  circle w0.05: c0.425,0.825 r0.025
  circle w0.05: c-0.575,0.175 r0.025
  circle w0.05: c-0.425,0.325 r0.025
  circle w0.05: c-0.425,0.175 r0.025
  circle w0.05: c-0.575,0.325 r0.025
  circle w0.05: c0.425,0.175 r0.025
  circle w0.05: c0.575,0.325 r0.025
  circle w0.05: c0.575,0.175 r0.025
  circle w0.05: c0.425,0.325 r0.025
  circle w0.05: c-0.575,-0.325 r0.025
  circle w0.05: c-0.425,-0.175 r0.025
  circle w0.05: c-0.425,-0.325 r0.025
  circle w0.05: c-0.575,-0.175 r0.025
  circle w0.05: c0.425,-0.325 r0.025
  circle w0.05: c0.575,-0.175 r0.025
  circle w0.05: c0.575,-0.325 r0.025
  circle w0.05: c0.425,-0.175 r0.025
  circle w0.05: c-0.575,-0.825 r0.025
  circle w0.05: c-0.425,-0.675 r0.025
  circle w0.05: c-0.425,-0.825 r0.025
  circle w0.05: c-0.575,-0.675 r0.025
  circle w0.05: c-0.075,-0.825 r0.025
  circle w0.05: c0.075,-0.675 r0.025
  circle w0.05: c0.075,-0.825 r0.025
  circle w0.05: c-0.075,-0.675 r0.025
  circle w0.05: c0.425,-0.825 r0.025
  circle w0.05: c0.575,-0.675 r0.025
  circle w0.05: c0.575,-0.825 r0.025
  circle w0.05: c0.425,-0.675 r0.025
  region: -0.575,0.825 -0.575,0.675 -0.425,0.675 -0.425,0.825
  region: -0.575,0.675 -0.575,0.825 -0.625,0.825 -0.625,0.675
  rectangle: -0.575,0.825 -0.425,0.875
  region: -0.425,0.825 -0.425,0.675 -0.375,0.675 -0.375,0.825
  region: -0.425,0.675 -0.575,0.675 -0.575,0.625 -0.425,0.625
  region: -0.075,0.825 -0.075,0.675 0.075,0.675 0.075,0.825
  region: -0.075,0.675 -0.075,0.825 -0.125,0.825 -0.125,0.675
  rectangle: -0.075,0.825 0.075,0.875
  region: 0.075,0.825 0.075,0.675 0.125,0.675 0.125,0.825
  region: 0.075,0.675 -0.075,0.675 -0.075,0.625 0.075,0.625
  region: 0.425,0.825 0.425,0.675 0.575,0.675 0.575,0.825
  region: 0.425,0.675 0.425,0.825 0.375,0.825 0.375,0.675
  rectangle: 0.425,0.825 0.575,0.875
  region: 0.575,0.825 0.575,0.675 0.625,0.675 0.625,0.825
  region: 0.575,0.675 0.425,0.675 0.425,0.625 0.575,0.625
  region: -0.575,0.325 -0.575,0.175 -0.425,0.175 -0.425,0.325
  region: -0.575,0.175 -0.575,0.325 -0.625,0.325 -0.625,0.175
  rectangle: -0.575,0.325 -0.425,0.375
  region: -0.425,0.325 -0.425,0.175 -0.375,0.175 -0.375,0.325
  region: -0.425,0.175 -0.575,0.175 -0.575,0.125 -0.425,0.125
  region: 0.425,0.325 0.425,0.175 0.575,0.175 0.575,0.325
  region: 0.425,0.175 0.425,0.325 0.375,0.325 0.375,0.175
  rectangle: 0.425,0.325 0.575,0.375
  region: 0.575,0.325 0.575,0.175 0.625,0.175 0.625,0.325
  region: 0.575,0.175 0.425,0.175 0.425,0.125 0.575,0.125
  region: -0.575,-0.175 -0.575,-0.325 -0.425,-0.325 -0.425,-0.175
  region: -0.575,-0.325 -0.575,-0.175 -0.625,-0.175 -0.625,-0.325
  rectangle: -0.575,-0.175 -0.425,-0.125
  region: -0.425,-0.175 -0.425,-0.325 -0.375,-0.325 -0.375,-0.175
  region: -0.425,-0.325 -0.575,-0.325 -0.575,-0.375 -0.425,-0.375
  region: 0.425,-0.175 0.425,-0.325 0.575,-0.325 0.575,-0.175
  region: 0.425,-0.325 0.425,-0.175 0.375,-0.175 0.375,-0.325
  rectangle: 0.425,-0.175 0.575,-0.125
  region: 0.575,-0.175 0.575,-0.325 0.625,-0.325 0.625,-0.175
  region: 0.575,-0.325 0.425,-0.325 0.425,-0.375 0.575,-0.375
  region: -0.575,-0.675 -0.575,-0.825 -0.425,-0.825 -0.425,-0.675
  region: -0.575,-0.825 -0.575,-0.675 -0.625,-0.675 -0.625,-0.825
  rectangle: -0.575,-0.675 -0.425,-0.625
  region: -0.425,-0.675 -0.425,-0.825 -0.375,-0.825 -0.375,-0.675
  region: -0.425,-0.825 -0.575,-0.825 -0.575,-0.875 -0.425,-0.875
  region: -0.075,-0.675 -0.075,-0.825 0.075,-0.825 0.075,-0.675
  region: -0.075,-0.825 -0.075,-0.675 -0.125,-0.675 -0.125,-0.825
  rectangle: -0.075,-0.675 0.075,-0.625
  region: 0.075,-0.675 0.075,-0.825 0.125,-0.825 0.125,-0.675
  region: 0.075,-0.825 -0.075,-0.825 -0.075,-0.875 0.075,-0.875
  region: 0.425,-0.675 0.425,-0.825 0.575,-0.825 0.575,-0.675
  region: 0.425,-0.825 0.425,-0.675 0.375,-0.675 0.375,-0.825
  rectangle: 0.425,-0.675 0.575,-0.625
  region: 0.575,-0.675 0.575,-0.825 0.625,-0.825 0.625,-0.675
  region: 0.575,-0.825 0.425,-0.825 0.425,-0.875 0.575,-0.875
Mechanical 13:
  lines w0.1: -0.87,-1 -0.87,1 0.87,1 0.87,-1 -0.87,-1
Mechanical 15:
  lines w0.05: -0.97,-1.1 -0.97,1.1 0.97,1.1 0.97,-1.1 -0.97,-1.1
  lines w0.1: -0.5,0 0.5,0 ; 0,-0.5 0,0.5
3D body: height 0.68, standoff 0, extent -0.87,-1 0.87,1

## TLP108WA [mm] "Micro SMD, 10-Leads, Body 2.5x2.25mm, Pitch 0.5mm, NSC Recommended"
height 0.68
pads (10):
  round 0.265 smd paste-0.132 mask+0.05: A1(-0.5,0.75) A2(0,0.75) A3(0.5,0.75) B1(-0.5,0.25) B3(0.5,0.25) C1(-0.5,-0.25) C3(0.5,-0.25) D1(-0.5,-0.75) D2(0,-0.75) D3(0.5,-0.75)
Top Overlay:
  circle w0.1: c-1.23,1.355 r0.05
Top Paste:
  circle w0.05: c-0.575,0.675 r0.025
  circle w0.05: c-0.425,0.825 r0.025
  circle w0.05: c-0.425,0.675 r0.025
  circle w0.05: c-0.575,0.825 r0.025
  circle w0.05: c-0.075,0.675 r0.025
  circle w0.05: c0.075,0.825 r0.025
  circle w0.05: c0.075,0.675 r0.025
  circle w0.05: c-0.075,0.825 r0.025
  circle w0.05: c0.425,0.675 r0.025
  circle w0.05: c0.575,0.825 r0.025
  circle w0.05: c0.575,0.675 r0.025
  circle w0.05: c0.425,0.825 r0.025
  circle w0.05: c-0.575,0.175 r0.025
  circle w0.05: c-0.425,0.325 r0.025
  circle w0.05: c-0.425,0.175 r0.025
  circle w0.05: c-0.575,0.325 r0.025
  circle w0.05: c0.425,0.175 r0.025
  circle w0.05: c0.575,0.325 r0.025
  circle w0.05: c0.575,0.175 r0.025
  circle w0.05: c0.425,0.325 r0.025
  circle w0.05: c-0.575,-0.325 r0.025
  circle w0.05: c-0.425,-0.175 r0.025
  circle w0.05: c-0.425,-0.325 r0.025
  circle w0.05: c-0.575,-0.175 r0.025
  circle w0.05: c0.425,-0.325 r0.025
  circle w0.05: c0.575,-0.175 r0.025
  circle w0.05: c0.575,-0.325 r0.025
  circle w0.05: c0.425,-0.175 r0.025
  circle w0.05: c-0.575,-0.825 r0.025
  circle w0.05: c-0.425,-0.675 r0.025
  circle w0.05: c-0.425,-0.825 r0.025
  circle w0.05: c-0.575,-0.675 r0.025
  circle w0.05: c-0.075,-0.825 r0.025
  circle w0.05: c0.075,-0.675 r0.025
  circle w0.05: c0.075,-0.825 r0.025
  circle w0.05: c-0.075,-0.675 r0.025
  circle w0.05: c0.425,-0.825 r0.025
  circle w0.05: c0.575,-0.675 r0.025
  circle w0.05: c0.575,-0.825 r0.025
  circle w0.05: c0.425,-0.675 r0.025
  region: -0.575,0.825 -0.575,0.675 -0.425,0.675 -0.425,0.825
  region: -0.575,0.675 -0.575,0.825 -0.625,0.825 -0.625,0.675
  rectangle: -0.575,0.825 -0.425,0.875
  region: -0.425,0.825 -0.425,0.675 -0.375,0.675 -0.375,0.825
  region: -0.425,0.675 -0.575,0.675 -0.575,0.625 -0.425,0.625
  region: -0.075,0.825 -0.075,0.675 0.075,0.675 0.075,0.825
  region: -0.075,0.675 -0.075,0.825 -0.125,0.825 -0.125,0.675
  rectangle: -0.075,0.825 0.075,0.875
  region: 0.075,0.825 0.075,0.675 0.125,0.675 0.125,0.825
  region: 0.075,0.675 -0.075,0.675 -0.075,0.625 0.075,0.625
  region: 0.425,0.825 0.425,0.675 0.575,0.675 0.575,0.825
  region: 0.425,0.675 0.425,0.825 0.375,0.825 0.375,0.675
  rectangle: 0.425,0.825 0.575,0.875
  region: 0.575,0.825 0.575,0.675 0.625,0.675 0.625,0.825
  region: 0.575,0.675 0.425,0.675 0.425,0.625 0.575,0.625
  region: -0.575,0.325 -0.575,0.175 -0.425,0.175 -0.425,0.325
  region: -0.575,0.175 -0.575,0.325 -0.625,0.325 -0.625,0.175
  rectangle: -0.575,0.325 -0.425,0.375
  region: -0.425,0.325 -0.425,0.175 -0.375,0.175 -0.375,0.325
  region: -0.425,0.175 -0.575,0.175 -0.575,0.125 -0.425,0.125
  region: 0.425,0.325 0.425,0.175 0.575,0.175 0.575,0.325
  region: 0.425,0.175 0.425,0.325 0.375,0.325 0.375,0.175
  rectangle: 0.425,0.325 0.575,0.375
  region: 0.575,0.325 0.575,0.175 0.625,0.175 0.625,0.325
  region: 0.575,0.175 0.425,0.175 0.425,0.125 0.575,0.125
  region: -0.575,-0.175 -0.575,-0.325 -0.425,-0.325 -0.425,-0.175
  region: -0.575,-0.325 -0.575,-0.175 -0.625,-0.175 -0.625,-0.325
  rectangle: -0.575,-0.175 -0.425,-0.125
  region: -0.425,-0.175 -0.425,-0.325 -0.375,-0.325 -0.375,-0.175
  region: -0.425,-0.325 -0.575,-0.325 -0.575,-0.375 -0.425,-0.375
  region: 0.425,-0.175 0.425,-0.325 0.575,-0.325 0.575,-0.175
  region: 0.425,-0.325 0.425,-0.175 0.375,-0.175 0.375,-0.325
  rectangle: 0.425,-0.175 0.575,-0.125
  region: 0.575,-0.175 0.575,-0.325 0.625,-0.325 0.625,-0.175
  region: 0.575,-0.325 0.425,-0.325 0.425,-0.375 0.575,-0.375
  region: -0.575,-0.675 -0.575,-0.825 -0.425,-0.825 -0.425,-0.675
  region: -0.575,-0.825 -0.575,-0.675 -0.625,-0.675 -0.625,-0.825
  rectangle: -0.575,-0.675 -0.425,-0.625
  region: -0.425,-0.675 -0.425,-0.825 -0.375,-0.825 -0.375,-0.675
  region: -0.425,-0.825 -0.575,-0.825 -0.575,-0.875 -0.425,-0.875
  region: -0.075,-0.675 -0.075,-0.825 0.075,-0.825 0.075,-0.675
  region: -0.075,-0.825 -0.075,-0.675 -0.125,-0.675 -0.125,-0.825
  rectangle: -0.075,-0.675 0.075,-0.625
  region: 0.075,-0.675 0.075,-0.825 0.125,-0.825 0.125,-0.675
  region: 0.075,-0.825 -0.075,-0.825 -0.075,-0.875 0.075,-0.875
  region: 0.425,-0.675 0.425,-0.825 0.575,-0.825 0.575,-0.675
  region: 0.425,-0.825 0.425,-0.675 0.375,-0.675 0.375,-0.825
  rectangle: 0.425,-0.675 0.575,-0.625
  region: 0.575,-0.675 0.575,-0.825 0.625,-0.825 0.625,-0.675
  region: 0.575,-0.825 0.425,-0.825 0.425,-0.875 0.575,-0.875
Mechanical 13:
  lines w0.1: -1.125,-1.25 -1.125,1.25 1.125,1.25 1.125,-1.25 -1.125,-1.25
Mechanical 15:
  lines w0.05: -1.225,-1.35 -1.225,1.35 1.225,1.35 1.225,-1.35 -1.225,-1.35
  lines w0.1: -0.5,0 0.5,0 ; 0,-0.5 0,0.5
3D body: height 0.68, standoff 0, extent -1.125,-1.25 1.125,1.25